# Altium footprint library condesator2.PcbLib: 1 footprints
Each footprint in its own frame and in the unit in brackets; x right, y up, seen from the top. Pads: shape width x height; smd on the part's side, far side on the other; paste and mask are expansions set on the pad; w line width, h text height; cw(c..) or ccw(c..) is an arc to the next point about the centre after c.
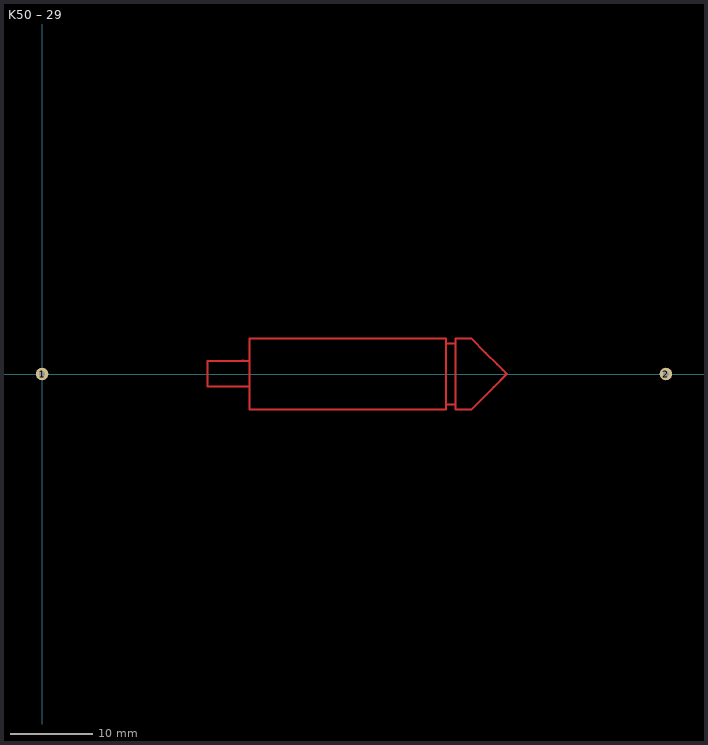
[diagram p0: the footprint, top view; thin cyan lines are the x and y axes]

## K50 – 29 [mil] "C?"
height 10
pads (2):
  round 60 hole 30: 1(0,0) 2(2980,0)
Top Layer:
  lines w10: 790,2.99 790,-60 ; 957.99,62.99 960,65 ; 986.85,-60 790,-60 ; 986.85,62.99 790,62.99 790,-60 ; 990,164.65 990,-170 1930.21,-170 1930.21,169.12 990,169.12 ; 1930,-145 1975,-145 ; 1930,145 1975,145 ; 1975.21,-170 2050,-170 2157.5,-62.5 2220,0 2200,20 2173.75,46.25 2120,100 2050,170 1975.21,170 1975.21,-170